# EAGLE library part LTC1966 (library Chadgra-PowerIC)
LTC1966 Precision Micropower RMS-to-DC Converter
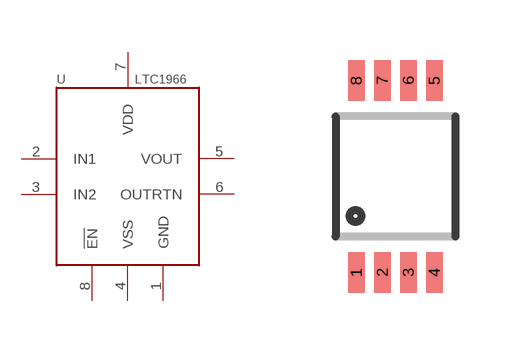
[diagram p1: symbol with the pads of MSOP-8; footprint MSOP-8]

Designator prefix -

## LTC1966  [MSOP-8]
1  GND
2  IN1
3  IN2
4  VSS
5  VOUT
6  OUTRTN
7  VDD
8  !EN

## Footprint MSOP-8 (pad centres in mm)
smd 0.41 x 1.02: 1 -0.975,-2.4; 2 -0.325,-2.4; 3 0.325,-2.4; 4 0.975,-2.4; 5 0.975,2.4; 6 0.325,2.4; 7 -0.325,2.4; 8 -0.975,2.4